# EAGLE library part 15-PIN_CONNECTOR-*_? (library 15-PIN_CONNECTOR-___)
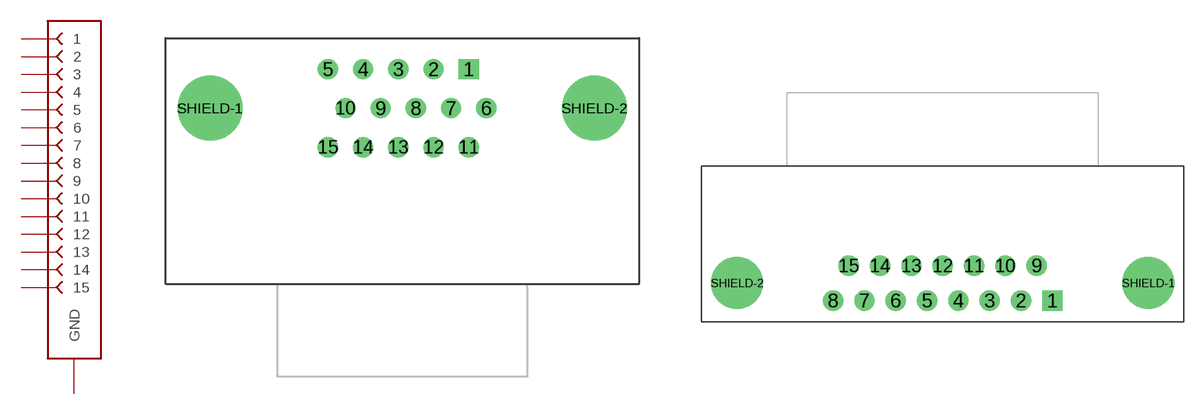
[diagram p0: symbol with the pads of 1734530-1; footprints 1734530-1, 5747236-4]

Designator prefix JP

## 15-PIN_CONNECTOR-AMP_HD-22 (COLOR: Black; CONNECTOR_STYLE: D-Sub, High Density; CONNECTOR_TYPE: Receptacle, Female Sockets; CONTACT_FINISH: Gold; CONTACT_FINISH_THICKNESS: Flash; CONTACT_TYPE: Signal; CURRENT_RATING: 2A; FEATURES: Board Lock; FLANGE_FEATURE: Housing/Shell (4-40); HOUSING_MATERIAL: Polyamide (PA9T), Nylon 9T; MOUNTINT_TYPE: Through Hole, Right Angle; NUMBER_POSITIONS: 15; NUMBER_ROWS: 3; OPERATING_TEMPERATURE: -55 ~ 105C; SERIES: AMPLIMITE HD-22, AMP; SHELL_MATERIAL: Steel, Nickel Plated; SHELL_SIZE: 1 (DE, E) High Density; TERMINATION: Solder; VOLTAGE_RATING: 125V)  [1734530-1]
1  1
2  2
3  3
4  4
5  5
6  6
7  7
8  8
9  9
10  10
11  11
12  12
13  13
14  14
15  15
SHIELD-1  GND
SHIELD-2  GND

## 15-PIN_CONNECTOR-AMP_HD-20 (COLOR: Black; CONNECTOR_STYLE: D-Sub; CONNECTOR_TYPE: Plug, Male Pins; CONTACT_FINISH: Gold; CONTACT_FINISH_THICKNESS: Flash; CONTACT_TYPE: Signal; FEATURES: Ground Strap, Grounding Indents; FLANGE_FEATURE: Housing/Shell (4-40); MOUNTING_TYPE: Through Hole, Right Angle; NUMBER_POSITIONS: 15; NUMBER_ROWS: 2; OPERATING_TEMPERATURE: -55 ~ 105C; SERIES: AMPLIMITE HD-20, AMP; SHELL_MATERIAL: Steel, Tin Plated; SHELL_SIZE: 2 (DA, A); TERMINATION: Solder; VOLTAGE_RATING: 125V)  [5747236-4]
Pads as for 1734530-1

## Footprint 1734530-1 (pad centres in mm)
drill 0.8 square: 1 4.32,2.54
drill 0.8: 2 2.03,2.54; 3 -0.26,2.54; 4 -2.55,2.54; 5 -4.84,2.54; 6 5.46,0; 7 3.17,0; 8 0.88,0; 9 -1.41,0; 10 -3.7,0; 11 4.32,-2.54; 12 2.03,-2.54; 13 -0.26,-2.54; 14 -2.55,-2.54; 15 -4.84,-2.54
drill 3.2: SHIELD-1 -12.5,0; SHIELD-2 12.5,0

## Footprint 5747236-4 (pad centres in mm)
drill 1.1 square: 1 8.89,0
drill 1.1: 2 6.35,0; 3 3.81,0; 4 1.27,0; 5 -1.27,0; 6 -3.81,0; 7 -6.35,0; 8 -8.89,0; 9 7.62,2.845; 10 5.08,2.845; 11 2.54,2.845; 12 0,2.845; 13 -2.54,2.845; 14 -5.08,2.845; 15 -7.62,2.845
drill 3.2: SHIELD-1 16.662,1.422; SHIELD-2 -16.662,1.422